# EAGLE library part TX0108 (library dan-translate)
TXB0108 or TXS0108
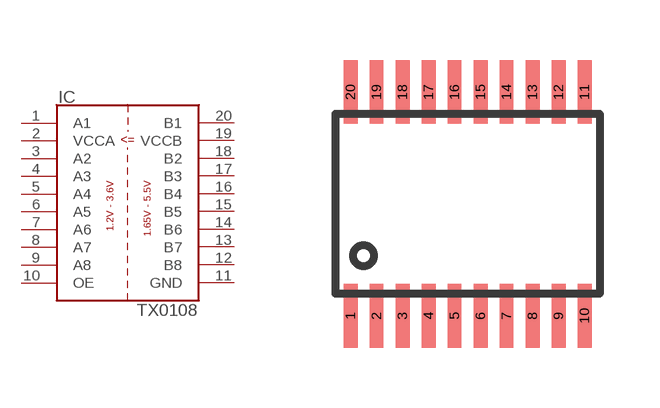
[diagram p2: symbol with the pads of TSSOP20; footprint TSSOP20]

Designator prefix IC

## TX0108PWR  [TSSOP20]
1  A1
2  VCCA  pas
3  A2
4  A3
5  A4
6  A5
7  A6
8  A7
9  A8
10  OE  in
11  GND  pas
12  B8
13  B7
14  B6
15  B5
16  B4
17  B3
18  B2
19  VCCB  pas
20  B1

## Footprint TSSOP20 (pad centres in mm)
TSSOP20 From http://focus.ti.com/lit/ds/symlink/txb0104.pdf
smd 0.35 x 1.6: 1 -2.925,-2.8; 2 -2.275,-2.8; 3 -1.625,-2.8; 4 -0.975,-2.8; 5 -0.325,-2.8; 6 0.325,-2.8; 7 0.975,-2.8; 8 1.625,-2.8; 9 2.275,-2.8; 10 2.925,-2.8; 11 2.925,2.8; 12 2.275,2.8; 13 1.625,2.8; 14 0.975,2.8; 15 0.325,2.8; 16 -0.325,2.8; 17 -0.975,2.8; 18 -1.625,2.8; 19 -2.275,2.8; 20 -2.925,2.8